# EAGLE library part JACK_TRS_SWITCHING (library parts-for-kicad)
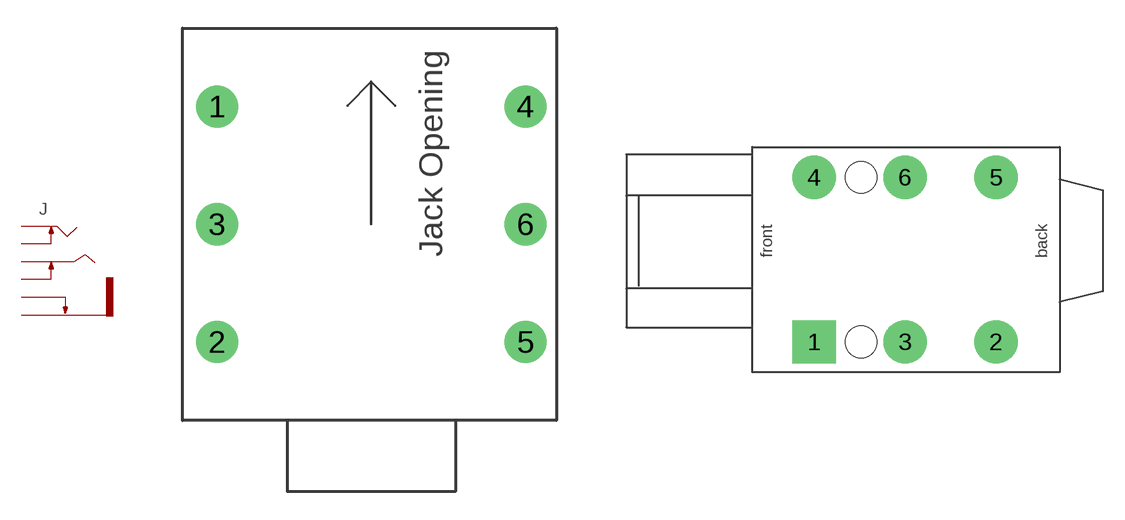
[diagram p1: symbol with the pads of TRS_JACK_WQP-PJ609B; footprints TRS_JACK_WQP-PJ609B, WQP-PJ6110]

Designator prefix J

## JACK_TRS_SWITCHING (IPN: 1/4" TRS Switching Jack Horizontal)  [TRS_JACK_WQP-PJ609B]
1  SLEEVE  pas
2  TIP  pas
3  RING  pas
4  SLEEVE_SW  pas
5  TIP_SW  pas
6  RING_SW  pas

## JACK_TRS_SWITCHING_WQP-PJ6110  [WQP-PJ6110]
Pads as for TRS_JACK_WQP-PJ609B

## Footprint TRS_JACK_WQP-PJ609B (pad centres in mm)
drill 1.5: 1 -8.25,6.3; 2 -8.25,-6.3; 3 -8.25,0; 4 8.25,6.3; 5 8.25,-6.3; 6 8.25,0

## Footprint WQP-PJ6110 (pad centres in mm)
drill 2 square: 1 -6.35,-7
drill 2: 2 6.25,-7; 3 -0.05,-7; 4 -6.35,4.4; 5 6.25,4.4; 6 -0.05,4.4
hole 2.2 at -3.1,4.4
hole 2.2 at -3.1,-7